# Altium footprint library connectors.PcbLib: 68 footprints (part 5 of 5)
Each footprint in its own frame and in the unit in brackets; x right, y up, seen from the top. Pads: shape width x height; smd on the part's side, far side on the other; paste and mask are expansions set on the pad; w line width, h text height; cw(c..) or ccw(c..) is an arc to the next point about the centre after c.
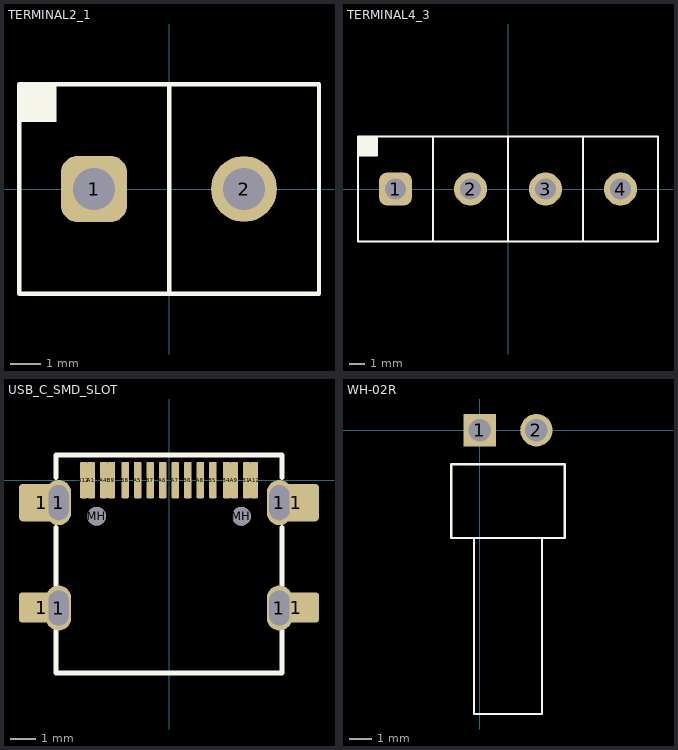
[diagram p4: the footprints below, top view; thin cyan lines are the x and y axes]

## TERMINAL2_1 [mm]
pads (2):
  rrect50% 2.2x2.2 hole 1.4: 1(-2.5,0)
  round 2.2 hole 1.4: 2(2.5,0)
Top Overlay:
  region: -5,2.25 -3.75,2.25 -3.75,3.5 -5,3.5
  lines w0.15: 0,-3.5 0,3.5 ; -5,-3.5 -5,3.5 5,3.5 5,-3.5 -5,-3.5
3D body "ScrewTerminal.STEP": height 10.41, standoff -4.09, extent -4.814,-3.049 5.475,4.551

## TERMINAL4_3 [mm]
pads (4):
  rrect50% 2.2x2.2 hole 1.4: 1(-7.5,0)
  round 2.2 hole 1.4: 2(-2.5,0) 3(2.5,0) 4(7.5,0)
Top Overlay:
  region: -10,2.25 -8.75,2.25 -8.75,3.5 -10,3.5
  lines w0.15: -10,2.25 -8.75,2.25 -8.75,3.5 ; -5,-3.5 -5,3.5 ; 0,-3.5 0,3.5 ; 5,-3.5 5,3.5 ; -10,-3.5 10,-3.5 10,3.5 -10,3.5 -10,-3.5
3D body "ScrewTerminal.STEP": height 10.41, standoff -4.09, extent -10.064,-3.049 0.225,4.551
3D body "ScrewTerminal.STEP": height 10.41, standoff -4.09, extent -0.064,-3.049 10.225,4.551

## USB_C_SMD_SLOT [mm] "USB 3.1 Type C"
pads (26):
  rrect20% 1.8x1.2 smd mask+0.07: 1(-5.08,-5.08) 1(5.08,-5.08)
  rrect20% 1.8x1.5 smd mask+0.07: 1(-5.08,-0.9) 1(5.08,-0.9)
  oval 1x1.8 hole 0.8 slot 1.4 at 90 deg: 1(-4.4,-5.1) 1(-4.4,-0.9) 1(4.4,-5.1) 1(4.4,-0.9)
  rrect30% 0.3x1.45 smd paste-2 mask+0.07: A1(-3.1,0) A4(-2.6,0) A9(2.6,0) A12(3.4,0) B1(3.1,0) B4(2.3,0) B9(-2.3,0) B12(-3.4,0)
  rrect30% 0.3x1.45 smd mask+0.07: A5(-1.25,0) A6(-0.25,0) A7(0.25,0) A8(1.25,0) B5(1.75,0) B6(0.75,0) B7(-0.75,0) B8(-1.75,0)
  round 0.75 hole 0.75 unplated paste-2539.97 mask+0.07: MH(-2.885,-1.44) MH(2.885,-1.44)
Top Overlay:
  lines w0.2: -4.5,-6 -4.5,-7.69 4.5,-7.69 4.5,-6 ; -4.5,-4.2 -4.5,-1.9 ; -4.5,0.1 -4.5,1 4.5,1 4.5,0.1 ; 4.5,-4.2 4.5,-1.9
Top Paste:
  region: -3.5,0.725 -3,0.725 -2.99,0.725 -2.972,0.717 -2.958,0.703 -2.95,0.685 -2.95,0.675 -2.95,-0.675 -2.95,-0.685 -2.958,-0.703 -2.972,-0.717 -2.99,-0.725 -3,-0.725 -3.5,-0.725 -3.51,-0.725 -3.528,-0.717 -3.542,-0.703 -3.55,-0.685 -3.55,-0.675 -3.55,0.675 -3.55,0.685 -3.542,0.703 -3.528,0.717 -3.51,0.725
  region: -2.7,0.725 -2.2,0.725 -2.19,0.725 -2.172,0.717 -2.158,0.703 -2.15,0.685 -2.15,0.675 -2.15,-0.675 -2.15,-0.685 -2.158,-0.703 -2.172,-0.717 -2.19,-0.725 -2.2,-0.725 -2.7,-0.725 -2.71,-0.725 -2.728,-0.717 -2.742,-0.703 -2.75,-0.685 -2.75,-0.675 -2.75,0.675 -2.75,0.685 -2.742,0.703 -2.728,0.717 -2.71,0.725
  region: 3,0.725 3.5,0.725 3.51,0.725 3.528,0.717 3.542,0.703 3.55,0.685 3.55,0.675 3.55,-0.675 3.55,-0.685 3.542,-0.703 3.528,-0.717 3.51,-0.725 3.5,-0.725 3,-0.725 2.99,-0.725 2.972,-0.717 2.958,-0.703 2.95,-0.685 2.95,-0.675 2.95,0.675 2.95,0.685 2.958,0.703 2.972,0.717 2.99,0.725
  region: 2.2,0.725 2.7,0.725 2.71,0.725 2.728,0.717 2.742,0.703 2.75,0.685 2.75,0.675 2.75,-0.675 2.75,-0.685 2.742,-0.703 2.728,-0.717 2.71,-0.725 2.7,-0.725 2.2,-0.725 2.19,-0.725 2.172,-0.717 2.158,-0.703 2.15,-0.685 2.15,-0.675 2.15,0.675 2.15,0.685 2.158,0.703 2.172,0.717 2.19,0.725
3D body "USB Type C Port (SMD Type).STEP": height 3.2, standoff -1, extent -4.47,-7.7 4.47,0.2

## WH-02R [mm]
pads (2):
  rect 1.45x1.45 hole 1: 1(0,0)
  round 1.45 hole 1: 2(2.54,0)
Top Overlay:
  lines w0.102: -0.254,-4.826 -0.254,-12.7 2.794,-12.7 2.794,-4.826 ; -1.27,-4.826 3.81,-4.826 3.81,-1.524 -1.27,-1.524 -1.27,-4.826
3D body "CI3102P1H00-NH.STEP": height 5.9, standoff -3.3, extent -1.302,-13.301 3.798,0.269